# EAGLE library part 74*180 (library 74ttl-din)
9-bit odd/even PARITY GENERATOR/CHECKER
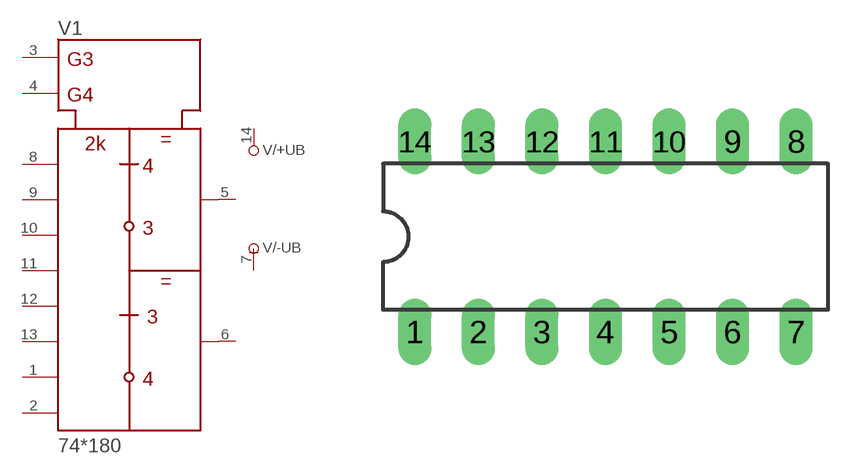
[diagram p2: symbol with the pads of DIL14; footprint DIL14]

Designator prefix V; gates /+UB=+UB /-UB=-UB 1=180

## 74180N  [DIL14]
1  1:G  in
2  1:H  in
3  1:EVEN  in
4  1:ODD  in
5  1:SEVEN  out
6  1:SODD  out
7  /-UB:-UB  pwr
8  1:A  in
9  1:B  in
10  1:C  in
11  1:D  in
12  1:E  in
13  1:F  in
14  /+UB:+UB  pwr

## Footprint DIL14 (pad centres in mm)
Dual In Line Package
drill 0.813 long: 1 -7.62,-3.81; 2 -5.08,-3.81; 3 -2.54,-3.81; 4 0,-3.81; 5 2.54,-3.81; 6 5.08,-3.81; 7 7.62,-3.81; 8 7.62,3.81; 9 5.08,3.81; 10 2.54,3.81; 11 0,3.81; 12 -2.54,3.81; 13 -5.08,3.81; 14 -7.62,3.81